# Altium schematic symbol library TVS_1_1dir.SchLib: 1 symbol
Pins are listed as number, name and electrical type; pins without a type are passive.

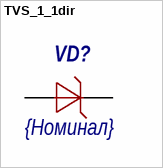
[diagram p0: symbol TVS_1_1dir]

## TVS_1_1dir
designator VD?, comment value {Номинал}  (hidden comment: Защитный диод)
pins: 1, 2